# Altium integrated library Other.IntLib: 5 symbols
Pins are listed as number, name and electrical type; pins without a type are passive.

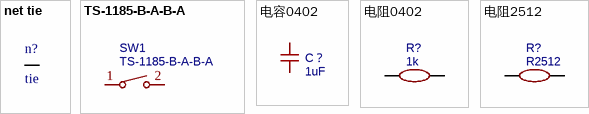
[diagram p0: symbols net tie to 电阻2512]

## net tie
designator n?, comment tie
footprint net tie
pins: 1, 1

## TS-1185-B-A-B-A
designator SW1
BOM_Manufacturer: XKB Enterprise; Contributor: LCSC; BOM_Supplier: LCSC; BOM_Supplier Part: C561517; BOM_Manufacturer Part: TS-1185-B-A-B-A; BOM_JLCPCB Part Class: Extended Part; spicePre: S; spiceSymbolName: TS-1185-B-A-B-A
footprint SW-SMD_L4.0-W3.0-LS5.0
pins: 1, 2

## 电容0402
designator C？, comment 1uF
BOM_Manufacturer: Samsung Electro-Mechanics; BOM_Manufacturer Part: CL05A105KL5NRNC; nameAlias: Capacitance; Contributor: LCSC; BOM_Supplier: LCSC; BOM_Supplier Part: C307413; BOM_JLCPCB Part Class: Extended Part; spicePre: C; spiceSymbolName: CL05A105KL5NRNC
footprint CAP_0402
pins: 1, 2

## 电阻0402
designator R?, comment 1k
BOM_Manufacturer: UniOhm; BOM_Manufacturer Part: 0402WGF5601TCE; nameAlias: Resistance; Resistance (Ohms): 5.6K; BOM_Supplier: LCSC; BOM_Supplier Part: C25908; BOM_JLCPCB Part Class: Basic Part; spicePre: R; spiceSymbolName: 0402WGF5601TCE
footprint RES_0402
pins: 1, 2

## 电阻2512
designator R?, comment R2512
BOM_Manufacturer: ResistorToday; BOM_Manufacturer Part: EWSL2512FL500S9; nameAlias: Resistance; Contributor: LCSC; Resistance (Ohms): 0.0005; BOM_Supplier: LCSC; BOM_Supplier Part: C349161; BOM_JLCPCB Part Class: Extended Part; spicePre: R; spiceSymbolName: EWSL2512FL500S9
footprint RES-SMD_L6.3-W3.1-1
pins: 1, 2